# Altium schematic symbol library 74AHC02D.SchLib: 1 symbol
Pins are listed as number, name and electrical type; pins without a type are passive.

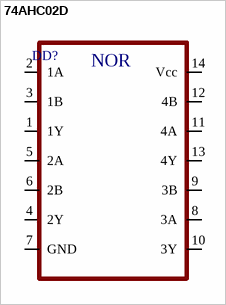
[diagram p0: symbol 74AHC02D]

## 74AHC02D
designator DD?
pins: 1 1Y, 2 1A, 3 1B, 4 2Y, 5 2A, 6 2B, 7 GND, 8 3A, 9 3B, 10 3Y, 11 4A, 12 4B, 13 4Y, 14 Vcc
text: NOR